# Altium footprint library Capacitor_Tantalum_SMD.PcbLib: 56 footprints (part 1 of 4)
Each footprint in its own frame and in the unit in brackets; x right, y up, seen from the top. Pads: shape width x height; smd on the part's side, far side on the other; paste and mask are expansions set on the pad; w line width, h text height; cw(c..) or ccw(c..) is an arc to the next point about the centre after c.
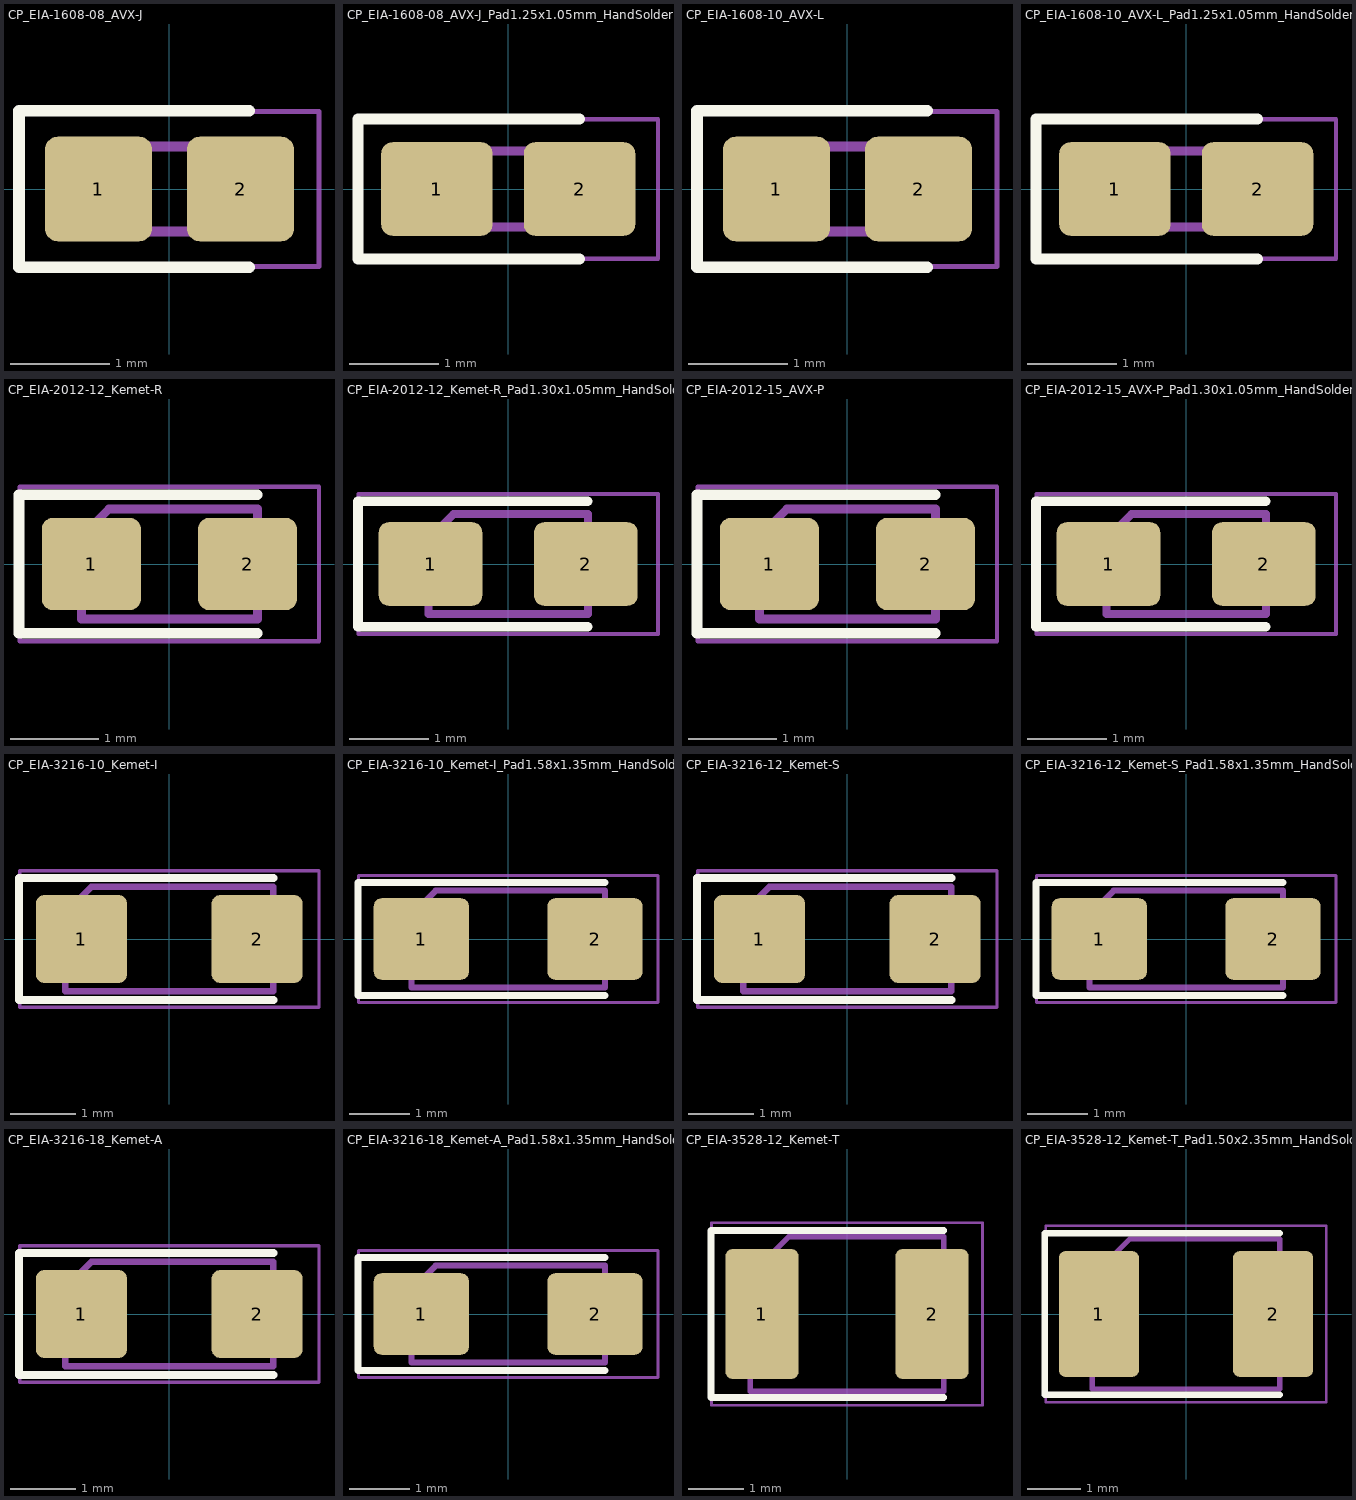
[diagram p0: the footprints below, top view; thin cyan lines are the x and y axes]

## CP_EIA-1608-08_AVX-J [mm]
pads (2):
  rrect24% 1.075x1.05 smd: 1(-0.713,0) 2(0.713,0)
F.SilkS:
  lines w0.12: 0.8,-0.785 -1.51,-0.785 -1.51,0.785 0.8,0.785
F.CrtYd:
  lines w0.05: -1.5,-0.78 1.5,-0.78 1.5,0.78 -1.5,0.78 -1.5,-0.78
F.Fab:
  lines w0.1: -0.8,-0.425 0.8,-0.425 0.8,0.425 -0.5,0.425 -0.8,0.125 -0.8,-0.425
  text "'.Designator'" at -1.619,-0.336 h0.4

## CP_EIA-1608-08_AVX-J_Pad1.25x1.05mm_HandSolder [mm]
pads (2):
  rrect24% 1.25x1.05 smd: 1(-0.8,0) 2(0.8,0)
F.SilkS:
  lines w0.12: 0.8,-0.785 -1.685,-0.785 -1.685,0.785 0.8,0.785
F.CrtYd:
  lines w0.05: -1.68,-0.78 -1.68,0.78 1.68,0.78 1.68,-0.78 -1.68,-0.78
F.Fab:
  lines w0.1: -0.8,-0.425 -0.8,0.125 -0.5,0.425 0.8,0.425 0.8,-0.425 -0.8,-0.425
  text "'.Designator'" at -1.619,-0.336 h0.4

## CP_EIA-1608-10_AVX-L [mm]
pads (2):
  rrect24% 1.075x1.05 smd: 1(-0.713,0) 2(0.713,0)
F.SilkS:
  lines w0.12: 0.8,-0.785 -1.51,-0.785 -1.51,0.785 0.8,0.785
F.CrtYd:
  lines w0.05: -1.5,-0.78 -1.5,0.78 1.5,0.78 1.5,-0.78 -1.5,-0.78
F.Fab:
  lines w0.1: -0.8,-0.425 -0.8,0.125 -0.5,0.425 0.8,0.425 0.8,-0.425 -0.8,-0.425
  text "'.Designator'" at -1.619,-0.336 h0.4

## CP_EIA-1608-10_AVX-L_Pad1.25x1.05mm_HandSolder [mm]
pads (2):
  rrect24% 1.25x1.05 smd: 1(-0.8,0) 2(0.8,0)
F.SilkS:
  lines w0.12: 0.8,-0.785 -1.685,-0.785 -1.685,0.785 0.8,0.785
F.CrtYd:
  lines w0.05: -1.68,-0.78 -1.68,0.78 1.68,0.78 1.68,-0.78 -1.68,-0.78
F.Fab:
  lines w0.1: -0.8,-0.425 -0.8,0.125 -0.5,0.425 0.8,0.425 0.8,-0.425 -0.8,-0.425
  text "'.Designator'" at -1.619,-0.336 h0.4

## CP_EIA-2012-12_Kemet-R [mm]
pads (2):
  rrect24% 1.125x1.05 smd: 1(-0.887,0) 2(0.887,0)
F.SilkS:
  lines w0.12: 1,-0.785 -1.71,-0.785 -1.71,0.785 1,0.785
F.CrtYd:
  lines w0.05: -1.7,-0.88 -1.7,0.88 1.7,0.88 1.7,-0.88 -1.7,-0.88
F.Fab:
  lines w0.1: -1,-0.625 1,-0.625 1,0.625 -0.687,0.625 -1,0.312 -1,-0.625
  text "'.Designator'" at -2.028,-0.425 h0.5

## CP_EIA-2012-12_Kemet-R_Pad1.30x1.05mm_HandSolder [mm]
pads (2):
  rrect24% 1.3x1.05 smd: 1(-0.975,0) 2(0.975,0)
F.SilkS:
  lines w0.12: 1,-0.785 -1.885,-0.785 -1.885,0.785 1,0.785
F.CrtYd:
  lines w0.05: -1.88,-0.88 -1.88,0.88 1.88,0.88 1.88,-0.88 -1.88,-0.88
F.Fab:
  lines w0.1: -1,-0.625 -1,0.312 -0.687,0.625 1,0.625 1,-0.625 -1,-0.625
  text "'.Designator'" at -2.028,-0.425 h0.5

## CP_EIA-2012-15_AVX-P [mm]
pads (2):
  rrect24% 1.125x1.05 smd: 1(-0.887,0) 2(0.887,0)
F.SilkS:
  lines w0.12: 1,-0.785 -1.71,-0.785 -1.71,0.785 1,0.785
F.CrtYd:
  lines w0.05: -1.7,-0.88 -1.7,0.88 1.7,0.88 1.7,-0.88 -1.7,-0.88
F.Fab:
  lines w0.1: -1,-0.625 1,-0.625 1,0.625 -0.687,0.625 -1,0.312 -1,-0.625
  text "'.Designator'" at -2.028,-0.425 h0.5

## CP_EIA-2012-15_AVX-P_Pad1.30x1.05mm_HandSolder [mm]
pads (2):
  rrect24% 1.3x1.05 smd: 1(-0.975,0) 2(0.975,0)
F.SilkS:
  lines w0.12: 1,-0.785 -1.885,-0.785 -1.885,0.785 1,0.785
F.CrtYd:
  lines w0.05: -1.88,-0.88 -1.88,0.88 1.88,0.88 1.88,-0.88 -1.88,-0.88
F.Fab:
  lines w0.1: -1,-0.625 -1,0.312 -0.687,0.625 1,0.625 1,-0.625 -1,-0.625
  text "'.Designator'" at -2.028,-0.425 h0.5

## CP_EIA-3216-10_Kemet-I [mm]
pads (2):
  rrect19% 1.4x1.35 smd: 1(-1.35,0) 2(1.35,0)
F.SilkS:
  lines w0.12: 1.6,-0.935 -2.31,-0.935 -2.31,0.935 1.6,0.935
F.CrtYd:
  lines w0.05: -2.3,-1.05 -2.3,1.05 2.3,1.05 2.3,-1.05 -2.3,-1.05
F.Fab:
  lines w0.1: -1.6,-0.8 1.6,-0.8 1.6,0.8 -1.2,0.8 -1.6,0.4 -1.6,-0.8
  text "'.Designator'" at -3.237,-0.672 h0.8

## CP_EIA-3216-10_Kemet-I_Pad1.58x1.35mm_HandSolder [mm]
pads (2):
  rrect19% 1.575x1.35 smd: 1(-1.438,0) 2(1.438,0)
F.SilkS:
  lines w0.12: 1.6,-0.935 -2.485,-0.935 -2.485,0.935 1.6,0.935
F.CrtYd:
  lines w0.05: -2.48,-1.05 -2.48,1.05 2.48,1.05 2.48,-1.05 -2.48,-1.05
F.Fab:
  lines w0.1: -1.6,-0.8 1.6,-0.8 1.6,0.8 -1.2,0.8 -1.6,0.4 -1.6,-0.8
  text "'.Designator'" at -3.237,-0.672 h0.8

## CP_EIA-3216-12_Kemet-S [mm]
pads (2):
  rrect19% 1.4x1.35 smd: 1(-1.35,0) 2(1.35,0)
F.SilkS:
  lines w0.12: 1.6,-0.935 -2.31,-0.935 -2.31,0.935 1.6,0.935
F.CrtYd:
  lines w0.05: -2.3,-1.05 -2.3,1.05 2.3,1.05 2.3,-1.05 -2.3,-1.05
F.Fab:
  lines w0.1: -1.6,-0.8 -1.6,0.4 -1.2,0.8 1.6,0.8 1.6,-0.8 -1.6,-0.8
  text "'.Designator'" at -3.237,-0.672 h0.8

## CP_EIA-3216-12_Kemet-S_Pad1.58x1.35mm_HandSolder [mm]
pads (2):
  rrect19% 1.575x1.35 smd: 1(-1.438,0) 2(1.438,0)
F.SilkS:
  lines w0.12: 1.6,-0.935 -2.485,-0.935 -2.485,0.935 1.6,0.935
F.CrtYd:
  lines w0.05: -2.48,-1.05 2.48,-1.05 2.48,1.05 -2.48,1.05 -2.48,-1.05
F.Fab:
  lines w0.1: -1.6,-0.8 1.6,-0.8 1.6,0.8 -1.2,0.8 -1.6,0.4 -1.6,-0.8
  text "'.Designator'" at -3.237,-0.672 h0.8

## CP_EIA-3216-18_Kemet-A [mm]
pads (2):
  rrect19% 1.4x1.35 smd: 1(-1.35,0) 2(1.35,0)
F.SilkS:
  lines w0.12: 1.6,-0.935 -2.31,-0.935 -2.31,0.935 1.6,0.935
F.CrtYd:
  lines w0.05: -2.3,-1.05 2.3,-1.05 2.3,1.05 -2.3,1.05 -2.3,-1.05
F.Fab:
  lines w0.1: -1.6,-0.8 -1.6,0.4 -1.2,0.8 1.6,0.8 1.6,-0.8 -1.6,-0.8
  text "'.Designator'" at -3.237,-0.672 h0.8

## CP_EIA-3216-18_Kemet-A_Pad1.58x1.35mm_HandSolder [mm]
pads (2):
  rrect19% 1.575x1.35 smd: 1(-1.438,0) 2(1.438,0)
F.SilkS:
  lines w0.12: 1.6,-0.935 -2.485,-0.935 -2.485,0.935 1.6,0.935
F.CrtYd:
  lines w0.05: -2.48,-1.05 -2.48,1.05 2.48,1.05 2.48,-1.05 -2.48,-1.05
F.Fab:
  lines w0.1: -1.6,-0.8 -1.6,0.4 -1.2,0.8 1.6,0.8 1.6,-0.8 -1.6,-0.8
  text "'.Designator'" at -3.237,-0.672 h0.8

## CP_EIA-3528-12_Kemet-T [mm]
pads (2):
  rrect19% 1.325x2.35 smd: 1(-1.538,0) 2(1.538,0)
F.SilkS:
  lines w0.12: 1.75,-1.51 -2.46,-1.51 -2.46,1.51 1.75,1.51
F.CrtYd:
  lines w0.05: -2.45,-1.65 -2.45,1.65 2.45,1.65 2.45,-1.65 -2.45,-1.65
F.Fab:
  lines w0.1: -1.75,-1.4 1.75,-1.4 1.75,1.4 -1.05,1.4 -1.75,0.7 -1.75,-1.4
  text "'.Designator'" at -3.559,-0.737 h0.88

## CP_EIA-3528-12_Kemet-T_Pad1.50x2.35mm_HandSolder [mm]
pads (2):
  rrect17% 1.5x2.35 smd: 1(-1.625,0) 2(1.625,0)
F.SilkS:
  lines w0.12: 1.75,-1.51 -2.635,-1.51 -2.635,1.51 1.75,1.51
F.CrtYd:
  lines w0.05: -2.62,-1.65 -2.62,1.65 2.62,1.65 2.62,-1.65 -2.62,-1.65
F.Fab:
  lines w0.1: -1.75,-1.4 -1.75,0.7 -1.05,1.4 1.75,1.4 1.75,-1.4 -1.75,-1.4
  text "'.Designator'" at -3.559,-0.737 h0.88